# Altium schematic symbol library SCH - POWER - LINEAR VREG - AD LT3094 MSE.SchLib: 1 symbol
Pins are listed as number, name and electrical type; pins without a type are passive.

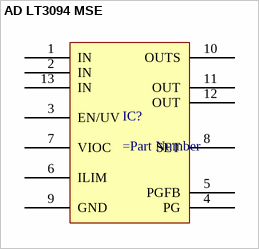
[diagram p0: symbol AD LT3094 MSE]

## AD LT3094 MSE
designator IC?
pins: 1 IN, 2 IN, 3 EN/UV, 4 PG, 5 PGFB, 6 ILIM, 7 VIOC, 8 SET, 9 GND, 10 OUTS, 11 OUT, 12 OUT, 13 IN